# Altium integrated library 2021-01-25_15-19-21.IntLib: 2 symbols
Pins are listed as number, name and electrical type; pins without a type are passive.

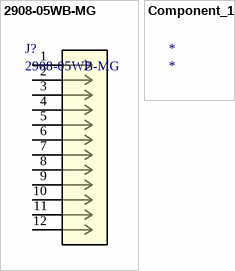
[diagram p0: symbols 2908-05WB-MG to Component_1]

## 2908-05WB-MG
designator J?
No Description Available; Vendor: 3M; Built_By: EMA_UL_Team; SourceLibrary: OnlineOrders_2014-07-19; Manufacturer_Part_Number: 2908-05WB-MG; Copyright: Copyright (C) 2018 Accelerated Designs. All rights reserved; RefDes: RefDes; Type: DEV
footprint CONN_3M_2900
pins: 1, 2, 3, 4, 5, 6, 7, 8, 9, 10, 11, 12

## Component_1
designator *